# Altium footprint library Trimpot paradito.PcbLib: 1 footprints
Each footprint in its own frame and in the unit in brackets; x right, y up, seen from the top. Pads: shape width x height; smd on the part's side, far side on the other; paste and mask are expansions set on the pad; w line width, h text height; cw(c..) or ccw(c..) is an arc to the next point about the centre after c.
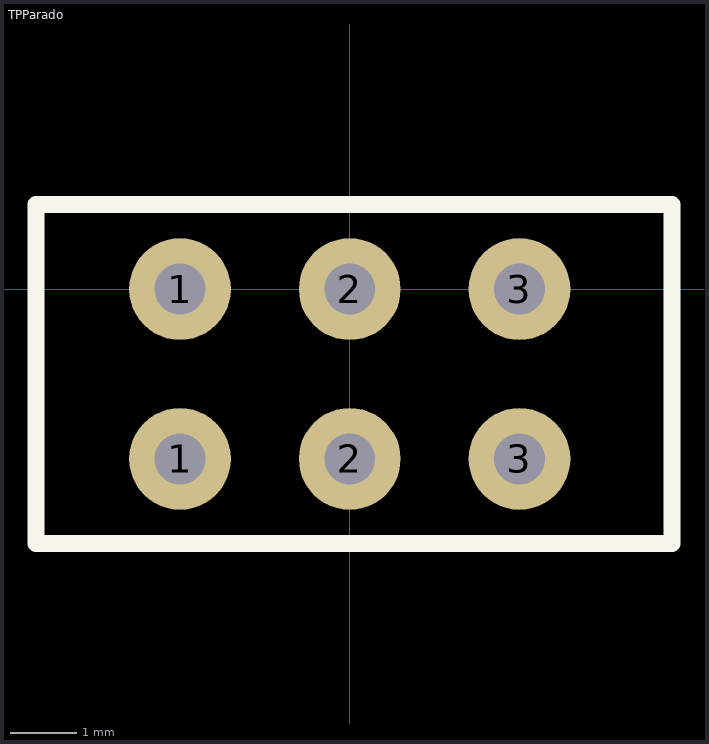
[diagram p0: the footprint, top view; thin cyan lines are the x and y axes]

## TPParado [mil]
pads (6):
  round 60 hole 30 square: 1(-100,-100) 1(-100,0)
  round 60 hole 30: 2(0,-100) 2(0,0) 3(100,-100) 3(100,0)
Top Overlay:
  lines w10: -185,-150 -185,50 190,50 190,-150 -185,-150
3D body: height 458.35, standoff -251.49, extent -187.6,-145.08 187.6,45.08